# Altium schematic symbol library MUSB-05-X-AB-SM-A.SchLib: 1 symbol
Pins are listed as number, name and electrical type; pins without a type are passive.

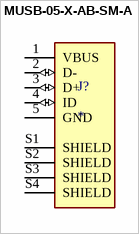
[diagram p0: symbol MUSB-05-X-AB-SM-A]

## MUSB-05-X-AB-SM-A
designator J?
USB - mini AB Receptacle Connector 5 Position Surface Mount, Right Angle; MF: Samtec; MP: MUSB-05-S-AB-SM-A; Check_prices: https://www.snapeda.com/parts/MUSB-05-S-AB-SM-A/Samtec/view-part/345697/?ref=eda; SnapEDA_Link: https://www.snapeda.com/parts/MUSB-05-S-AB-SM-A/Samtec/view-part/345697/?ref=snap; Price: None; Package: None; Availability: In Stock; Value: *; Purchase-URL: https://pricing.snapeda.com/search/part/MUSB-05-S-AB-SM-A/?ref=eda
footprint SAMTEC_MUSB-05-X-AB-SM-A
pins: 1 VBUS (power), 2 D- (io), 3 D+ (io), 4 ID (io), 5 GND (power), S1 SHIELD, S2 SHIELD, S3 SHIELD, S4 SHIELD